# Altium schematic symbol library SJK 7U 3225.SchLib: 1 symbol
Pins are listed as number, name and electrical type; pins without a type are passive.

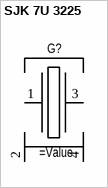
[diagram p0: symbol SJK 7U 3225]

## SJK 7U 3225
designator G?
Value: =Value
pins: 1, 2, 3, 4